# EAGLE library part PCF8574AT (library PCF8574AT)
Remote 8-bit I/O expander for I2C-bus Check prices <https://pricing.snapeda.com/parts/PCF8574AT/NXP%20USA/view-part?ref=eda>
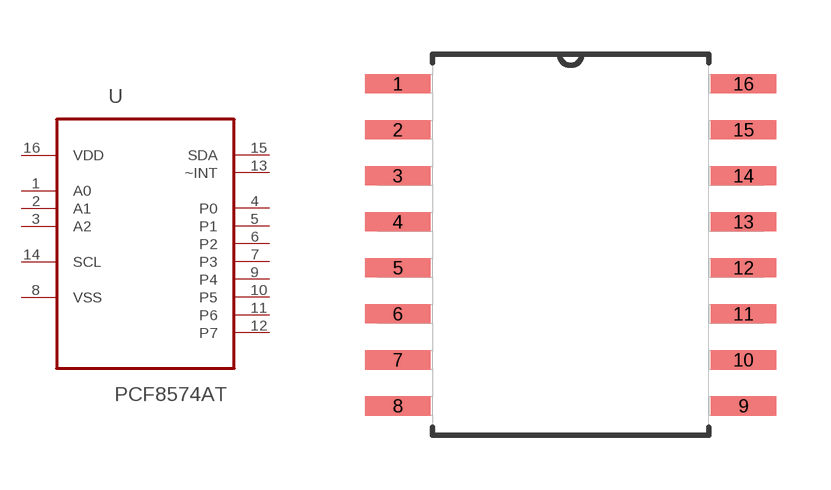
[diagram p0: symbol with the pads of SOIC127P1032X265-16N; footprint SOIC127P1032X265-16N]

Designator prefix U

## PCF8574AT (Availability: In Stock; Description: I/O Expander 8 I²C 100kHz 20-SSOP; MF: NXP USA; MP: PCF8574AT; Package: SOIC-16 NXP USA; Price: None; Purchase-URL: https://pricing.snapeda.com/search/part/PCF8574AT/?ref=eda)  [SOIC127P1032X265-16N]
1  A0  in
2  A1  in
3  A2  in
4  P0
5  P1
6  P2
7  P3
8  VSS  pas
9  P4
10  P5
11  P6
12  P7
13  ~INT  out
14  SCL  in
15  SDA
16  VDD  pwr

## Footprint SOIC127P1032X265-16N (pad centres in mm)
smd 1.803 x 0.533: 1 -4.775,4.445; 2 -4.775,3.175; 3 -4.775,1.905; 4 -4.775,0.635; 5 -4.775,-0.635; 6 -4.775,-1.905; 7 -4.775,-3.175; 8 -4.775,-4.445; 9 4.775,-4.445; 10 4.775,-3.175; 11 4.775,-1.905; 12 4.775,-0.635; 13 4.775,0.635; 14 4.775,1.905; 15 4.775,3.175; 16 4.775,4.445